# Altium schematic symbol library Trans_Diodes_BC807-16W-7_eec.SchLib: 1 symbol
Pins are listed as number, name and electrical type; pins without a type are passive.

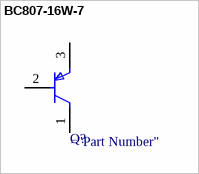
[diagram p0: symbol BC807-16W-7]

## BC807-16W-7
designator Q?  (value not drawn)
pins: 1 C, 2 B, 3 E